# Altium footprint library fszhang.PcbLib: 172 footprints (part 2 of 11)
Each footprint in its own frame and in the unit in brackets; x right, y up, seen from the top. Pads: shape width x height; smd on the part's side, far side on the other; paste and mask are expansions set on the pad; w line width, h text height; cw(c..) or ccw(c..) is an arc to the next point about the centre after c.
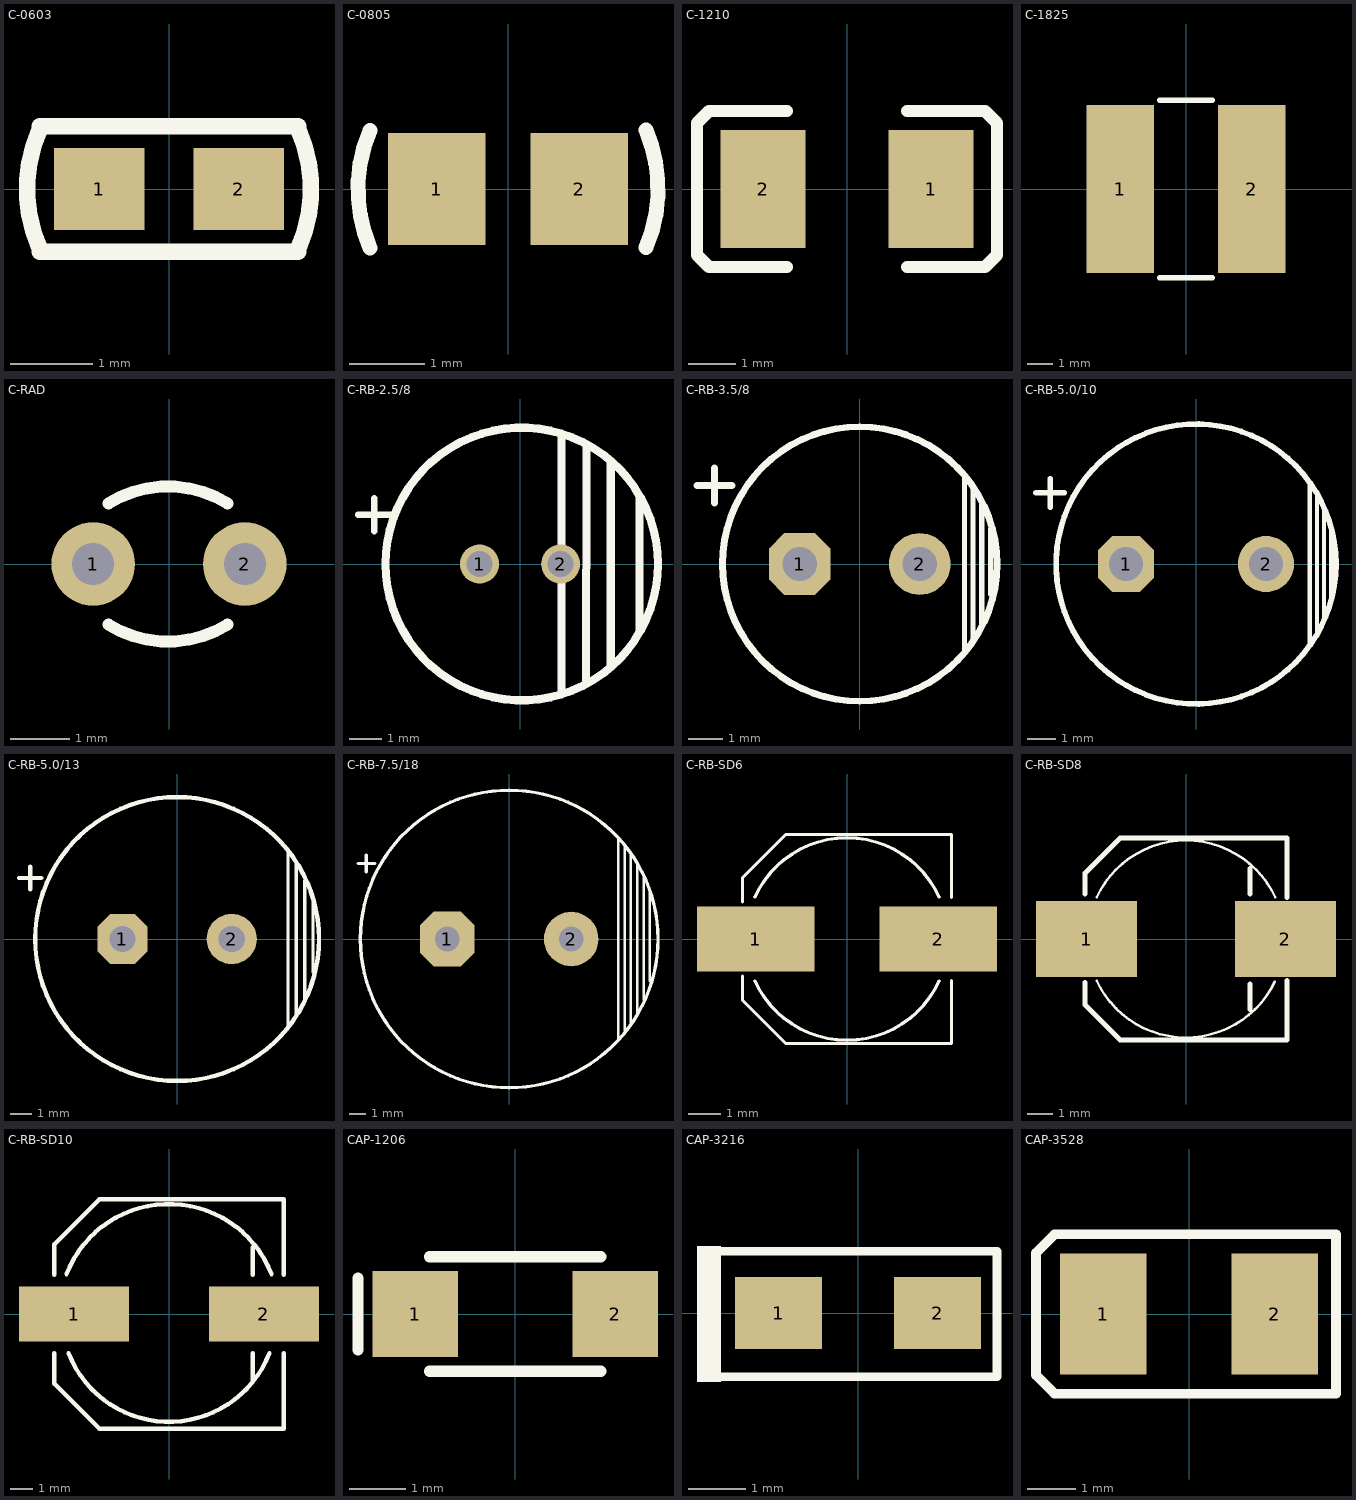
[diagram p1: the footprints below, top view; thin cyan lines are the x and y axes]

## C-0603 [mm] "贴片电容"
height 0.6
pads (2):
  rect 1.1x1 smd: 1(-0.85,0) 2(0.85,0)
Top Overlay:
  lines w0.2: -1.574,-0.762 1.574,-0.762 ; -1.574,-0.727 cw(c0.048,0) -1.574,0.727 ; -1.574,0.762 1.574,0.762 ; 1.574,-0.727 ccw(c-0.048,0) 1.574,0.727
3D body: height 0.3, standoff 0, extent -0.8,-0.4 0.8,0.4

## C-0805 [mm] "贴片电容"
height 1
pads (2):
  rect 1.3x1.5 smd: 1(-0.95,0) 2(0.95,0)
Top Overlay:
  lines w0.2: -1.842,0.779 ccw(c0,0) -1.838,-0.789 ; 1.838,0.789 cw(c0,0) 1.842,-0.779
3D body: height 0.95, standoff 0, extent -1,-0.6 1,0.6

## C-1210 [mm] "贴片电容"
height 3
pads (2):
  rect 1.8x2.5 smd: 1(1.778,0) 2(-1.778,0)
Top Overlay:
  lines w0.254: -1.27,-1.651 -2.921,-1.651 -3.175,-1.397 -3.175,1.397 -2.921,1.651 -1.27,1.651 ; 1.27,-1.651 2.921,-1.651 3.175,-1.397 3.175,1.397 2.921,1.651 1.27,1.651

## C-1825 [mm] "贴片电阻"
pads (2):
  rect 2.6x6.5 smd: 1(-2.54,0) 2(2.54,0)
Top Overlay:
  lines w0.2: -1.016,-3.429 1.016,-3.429 ; -1.016,3.429 1.016,3.429
3D body: height 1.2, standoff 0, extent -2.286,-3.175 2.286,3.175

## C-RAD [mm] "瓷片电容"
height 6
pads (2):
  round 1.4 hole 0.7: 1(-1.27,0) 2(1.27,0)
Top Overlay:
  lines w0.2: -1.016,-1.016 ccw(c-0.018,0.606) 0.981,-1.016 ; -1.016,1.016 cw(c-0.018,-0.606) 0.981,1.016

## C-RB-2.5/8 [mm] "插件电解电容"
pads (2):
  round 1.2 hole 0.8: 1(-1.25,0) 2(1.25,0)
Top Overlay:
  circle w0.254: c0.05,0 r4.2
  lines w0.2: -4.995,1.524 -3.979,1.524 ; -4.487,1.016 -4.487,2.032
  lines w0.25: 1.275,2.15 1.275,3.618 1.279,3.622 1.279,3.928 ; 2.032,-3.556 2.041,3.241 2.041,3.674 ; 2.794,-3.175 2.794,2.032 2.794,3.175 ; 3.683,-2.032 3.683,2.032
  lines w0.254: 1.275,-3.937 1.275,2.15

## C-RB-3.5/8 [mm] "插件电解电容"
height 12
pads (2):
  oct 1.8x1.8 hole 1: 1(-1.75,0)
  round 1.8 hole 1: 2(1.75,0)
Top Overlay:
  circle w0.2: c0,0 r4
  lines w0.15: 3.048,-2.54 3.048,2.54 ; 3.302,-2.159 3.302,2.286 ; 3.556,-1.778 3.556,1.778 ; 3.81,-0.889 3.81,1.016
  lines w0.2: -4.741,2.286 -3.725,2.286 ; -4.233,1.778 -4.233,2.794

## C-RB-5.0/10 [mm] "插件电解电容"
height 16
pads (2):
  oct 2x2 hole 1.2: 1(-2.5,0)
  round 2 hole 1.2: 2(2.5,0)
Top Overlay:
  circle w0.2: c0,0 r5
  lines w0.15: 4.064,-2.921 4.064,2.921 ; 4.318,-2.413 4.318,2.413 ; 4.572,-1.905 4.572,1.905 ; 4.826,-1.143 4.826,1.143
  lines w0.2: -5.715,2.54 -4.699,2.54 ; -5.207,2.032 -5.207,3.048

## C-RB-5.0/13 [mm] "插件电解电容"
height 20
pads (2):
  oct 2.3x2.3 hole 1.2: 1(-2.5,0)
  round 2.3 hole 1.2: 2(2.5,0)
Top Overlay:
  circle w0.2: c0,0 r6.5
  lines w0.15: 5.08,-3.937 5.08,3.937 ; 5.461,-3.429 5.461,3.429 ; 5.842,-2.794 5.842,2.667 ; 6.223,-1.524 6.223,1.778
  lines w0.2: -7.239,2.794 -6.223,2.794 ; -6.731,2.286 -6.731,3.302

## C-RB-7.5/18 [mm] "插件电解电容"
height 20
pads (2):
  oct 3.3x3.3 hole 1.5: 1(-3.75,0)
  round 3.3 hole 1.5: 2(3.75,0)
Top Overlay:
  circle w0.2: c0,0 r9
  lines w0.15: 6.604,-6.096 6.604,6.096 ; 6.985,-5.588 6.985,5.588 ; 7.366,-5.08 7.366,5.08 ; 7.747,-4.445 7.747,4.572 ; 8.128,-3.683 8.128,3.81 ; 8.509,-2.54 8.509,2.921
  lines w0.2: -9.144,4.572 -8.128,4.572 ; -8.636,4.064 -8.636,5.08

## C-RB-SD6 [mm] "贴片铝电解"
height 7
pads (2):
  rect 3.6x2 smd: 1(-2.794,0) 2(2.794,0)
Top Overlay:
  lines w0.1: -3.2,-1.143 -3.2,-1.88 -1.88,-3.2 3.2,-3.2 3.2,-1.27 ; -3.2,1.143 -3.2,1.88 -1.88,3.2 3.2,3.2 3.2,1.27 ; -2.822,-1.283 ccw(c0,0) 2.822,-1.283 ; -2.822,1.283 cw(c0,0) 2.822,1.283

## C-RB-SD8 [mm] "贴片铝电解"
height 10.2
pads (2):
  rect 4x3 smd: 1(-3.937,0) 2(3.937,0)
Top Overlay:
  lines w0.1: -3.539,-1.643 ccw(c0,0) 3.516,-1.693 ; -3.539,1.643 cw(c0,0) 3.539,1.643
  lines w0.2: -4,-1.714 -4,-2.604 -2.604,-4 4,-4 4,-1.651 ; -4,1.778 -4,2.604 -2.604,4 4,4 4,1.651 ; 2.54,-2.794 2.54,-1.778 ; 2.54,1.778 2.54,2.794
3D body: height 8, standoff 0, extent -3.953,-3.992 4.015,3.992
3D body: height 0.6, standoff 0, extent -3.937,-3.937 3.937,3.937

## C-RB-SD10 [mm] "贴片铝电解"
height 10.2
pads (2):
  rect 5x2.5 smd: 1(-4.318,0) 2(4.318,0)
Top Overlay:
  lines w0.2: -5.207,-1.778 -5.207,-3.175 -3.175,-5.207 5.207,-5.207 5.207,-1.778 ; -5.207,1.778 -5.207,3.175 -3.175,5.207 5.207,5.207 5.207,1.778 ; -4.66,1.812 cw(c0,0) 4.66,1.812 ; -4.567,-1.776 ccw(c0,0) 4.567,-1.776 ; 3.8,-3.032 3.8,-1.778 ; 3.8,1.778 3.8,3.032
3D body: height 10.5, standoff 0, extent -4.96,-4.99 5,4.99
3D body: height 1.2, standoff 0, extent -5.207,-5.207 5.207,5.207

## CAP-1206 [mil] "钽电容"
height 59.06
pads (2):
  rect 60x60 smd: 1(-70,0) 2(70,0)
Top Overlay:
  lines w7.87: -110,-25 -110,25 ; -60,-40 60,-40 ; -60,40 60,40
3D body: height 39.37, standoff 0, extent -55,-35 55,35
3D body: height 39.37, standoff 0, extent 45,-35 65,35
3D body: height 39.37, standoff 0, extent -65,-35 -45,35

## CAP-3216 [mil] "钽电容"
height 78.74
pads (2):
  rect 60x50 smd: 1(-55,0) 2(55,0)
Top Overlay:
  region: -95,46.39 -111.46,46.39 -111.46,-47.61 -95,-47.61
  lines w5.91: -94.83,-43.92 96.11,-43.92 96.11,42.69 -94.83,42.69
3D body: height 62.99, standoff 0, extent -62.99,-31.5 62.99,31.49

## CAP-3528 [mm] "钽电容"
height 3
pads (2):
  rect 1.8x2.5 smd: 1(-1.778,0) 2(1.778,0)
Top Overlay:
  lines w0.2: -3.175,-1.27 -3.175,1.27 -2.794,1.651 -1.778,1.651 1.778,1.651 3.048,1.651 3.048,-1.651 1.775,-1.651 -1.778,-1.651 -2.794,-1.651 -3.175,-1.27
3D body: height 1.1, standoff 0, extent -1.778,-0.952 -1.524,0.953
3D body: height 1, standoff 0, extent -1.905,-1.397 1.905,1.397